# Altium footprint library QuickRotor_V1.PcbLib: 20 footprints (part 1 of 2)
Each footprint in its own frame and in the unit in brackets; x right, y up, seen from the top. Pads: shape width x height; smd on the part's side, far side on the other; paste and mask are expansions set on the pad; w line width, h text height; cw(c..) or ccw(c..) is an arc to the next point about the centre after c.
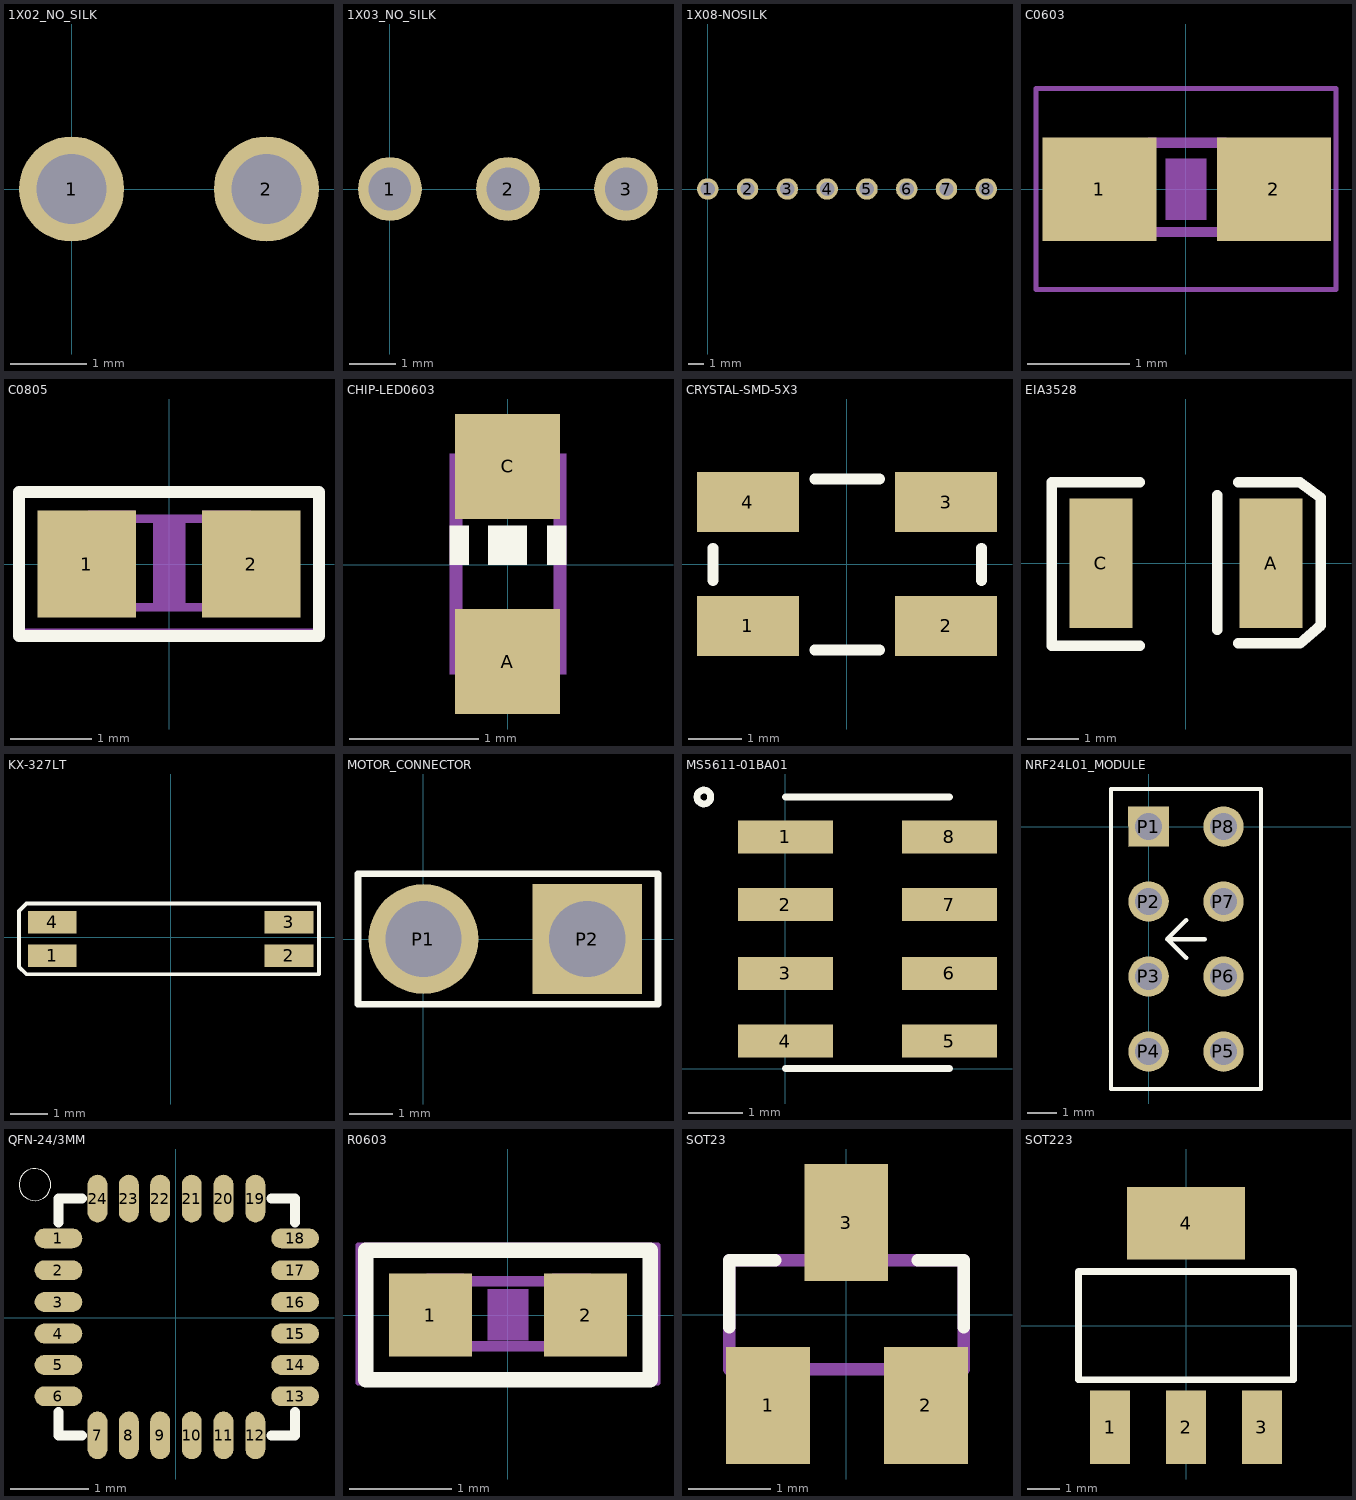
[diagram p0: the footprints below, top view; thin cyan lines are the x and y axes]

## 1X02_NO_SILK [mil] "1X02_NO_SILK"
pads (2):
  round 54 hole 36: 1(0,0) 2(100,0)
Mechanical 16:
  rectangle: 90,-10 110,10
  rectangle: -10,-10 10,10

## 1X03_NO_SILK [mil] "1X03_NO_SILK"
pads (3):
  round 54 hole 36: 1(0,0) 2(100,0) 3(200,0)
Mechanical 16:
  rectangle: -10,-10 10,10
  rectangle: 90,-10 110,10
  rectangle: 190,-10 210,10

## 1X08-NOSILK [mil] "1X08-NOSILK"
pads (8):
  round 54 hole 36: 1(0,0) 2(100,0) 3(200,0) 4(300,0) 5(400,0) 6(500,0) 7(600,0) 8(700,0)
Mechanical 16:
  rectangle: 590,-10 610,10
  rectangle: 490,-10 510,10
  rectangle: 390,-10 410,10
  rectangle: 290,-10 310,10
  rectangle: 190,-10 210,10
  rectangle: 90,-10 110,10
  rectangle: -10,-10 10,10
  rectangle: 690,-10 710,10

## C0603 [mil] "C0603"
pads (2):
  rect 44x40 smd: 1(-33.46,0) 2(34,0)
Mechanical 6:
  rectangle: -7.87,-11.81 8,12
Mechanical 16:
  rectangle: -33,-18.5 -13.31,19
  rectangle: 13,-18.5 33,19
  lines w2: -57.99,-38.7 58,-38.7 58,39 -57.99,39 -57.99,-38.7
  lines w4: -14.02,-16.5 15,-16.5 ; -14.02,18 15,18

## C0805 [mil] "C0805"
pads (2):
  rect 48x52 smd: 1(-40,0) 2(40,0)
Top Overlay:
  lines w6: -73,-35 -73,35 73,35 73,-35 -73,-35
Mechanical 6:
  rectangle: -7.87,-19.69 8,20
Mechanical 16:
  rectangle: -39.37,-25.59 -16.41,26
  rectangle: 16,-25.59 40,26
  lines w2: -71.43,-32.45 -71.43,33 72,33 72,-32.45 -71.43,-32.45
  lines w4: -20.08,-21.06 21,-21.06 ; -20.08,22 21,22

## CHIP-LED0603 [mil] "CHIP-LED0603"
pads (2):
  rect 32x32 smd: A(0,-29.53) C(0,30)
Top Overlay:
  rectangle: -5.91,0 6,12
  rectangle: 12,0 18,12
  rectangle: -17.72,0 -11.81,12
Mechanical 16:
  rectangle: -17.72,-33.46 18,-17.72
  rectangle: -17.72,18 18,34
  lines w4: -15.75,-17.72 -15.75,18 ; 16,-17.72 16,18

## CRYSTAL-SMD-5X3 [mil] "CRYSTAL-SMD-5X3"
pads (4):
  rect 75x44 smd: 1(-72.83,-45.28) 2(73,-45.28) 3(73,46) 4(-72.83,46)
Top Overlay:
  lines w8: -98.43,-11.81 -98.43,12 ; -23.62,-62.99 24,-62.99 ; -23.62,63 24,63 ; 99,-11.81 99,12

## EIA3528 [mil] "EIA3528"
pads (2):
  rect 48x99 smd: A(65,0) C(-64.96,0)
Top Overlay:
  lines w8: -35.43,-62.99 -102.36,-62.99 -102.36,62 -35.43,62 ; 24,-50.63 24,52 ; 40,-61.02 87,-61.02 103,-47.24 103,50 87,62 ; 87,62 40,62 87,62

## KX-327LT [mil] "KX-327LT"
pads (4):
  rect 52x24 smd: 1(-125.98,-19.68) 2(126,-19.68) 3(126,16) 4(-125.98,16)
Top Overlay:
  lines w4: -161.42,-31.5 -153.54,-39.37 158,-39.37 158,36 -153.54,36 -161.42,28 -161.42,-31.5

## MOTOR_CONNECTOR [mil] "MOTOR_CONNECTOR"
pads (2):
  round 100.5 hole 70: P1(0,0)
  rect 100.5x100.5 hole 70: P2(150,0)
Top Overlay:
  lines w6: -60,-60 215,-60 215,60 -60,60 -60,-60

## MS5611-01BA01 [mil] "MS5611-01BA01"
pads (8):
  rect 69x24 smd: 1(0,168) 2(0,119) 3(0,69) 4(0,20) 5(119,20) 6(119,69) 7(119,119) 8(119,168)
Top Overlay:
  circle w5: c-59.06,197 r5
  lines w5: 0,0 119,0 ; 0,197 119,197

## NRF24L01_MODULE [mil] "NRF24L01_MODULE"
pads (8):
  rect 54x54 hole 36: P1(0,0)
  round 54 hole 36: P2(0,-100) P3(0,-200) P4(0,-300) P5(100,-300) P6(100,-200) P7(100,-100) P8(100,0)
Top Overlay:
  lines w5: -50,-350 -50,50 150,50 150,-350 -50,-350
  lines w6: 50,-175 25,-150 ; 50,-125 25,-150 ; 75,-150 25,-150

## QFN-24/3MM [mil] "QFN-24/3MM"
pads (24):
  rrect100% 24x10 smd: 1(-59.06,40) 2(-59.06,24) 3(-59.06,8) 4(-59.06,-7.87) 5(-59.06,-23.62) 6(-59.06,-39.37) 13(60,-39.37) 14(60,-23.62) 15(60,-7.87) 16(60,8) 17(60,24) 18(60,40)
  rrect100% 10x24 smd: 7(-39.37,-59.06) 8(-23.62,-59.06) 9(-7.87,-59.06) 10(8,-59.06) 11(24,-59.06) 12(40,-59.06) 19(40,60) 20(24,60) 21(8,60) 22(-7.87,60) 23(-23.62,60) 24(-39.37,60)
Top Overlay:
  circle w0: c-70.87,67 r8
  lines w5: -59.06,-47.24 -59.06,-59.06 -47.24,-59.06 ; -59.06,48 -59.06,60 -47.24,60 ; 48,-59.06 60,-59.06 60,-47.24 ; 48,60 60,60 60,48

## R0603 [mil] "R0603"
pads (2):
  rect 32x32 smd: 1(-30,0) 2(30,0)
Top Overlay:
  lines w6: -55,-25 55,-25 55,25 -55,25 -55,-25
Mechanical 6:
  rectangle: -7.87,-9.84 8,10
Mechanical 16:
  rectangle: 17,-15.75 32,16
  rectangle: -31.5,-15.74 -17,16
  lines w2: -57.99,-26.2 58,-26.2 58,27 -57.99,27 -57.99,-26.2
  lines w4: -17.01,-12.05 18,-12.05 ; -17.01,13 18,13

## SOT23 [mil] "SOT23"
pads (3):
  rect 40x56 smd: 1(-37.4,-43.31) 2(38,-43.31) 3(0,44)
Top Overlay:
  lines w6: -56,-6 -56,26 -34,26 ; 34,26 56,26 56,-6
Mechanical 16:
  rectangle: -9,28 9,51
  rectangle: 28,-51 46,-28
  rectangle: -46,-51 -28,-28
  lines w6: -56,-26 56,-26 56,26 -56,26 -56,-26

## SOT223 [mil] "SOT223"
pads (4):
  rect 48x88 smd: 1(-91,-122) 2(0,-122) 3(91,-122)
  rect 142x87 smd: 4(0,123)
Top Overlay:
  lines w8: -129,-65 129,-65 129,65 -129,65 -129,-65